# Altium schematic symbol library WH-LTE-7S4.SchLib: 1 symbol
Pins are listed as number, name and electrical type; pins without a type are passive.

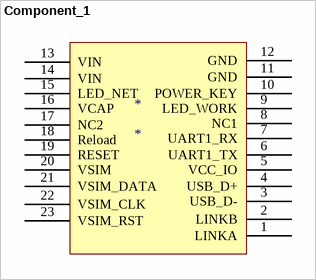
[diagram p0: symbol Component_1]

## Component_1
designator *
pins: 1 LINKA, 2 LINKB, 3 USB_D-, 4 USB_D+, 5 VCC_IO, 6 UART1_TX, 7 UART1_RX, 8 NC1, 9 LED_WORK, 10 POWER_KEY, 11 GND, 12 GND, 13 VIN, 14 VIN, 15 LED_NET, 16 VCAP, 17 NC2, 18 Reload, 19 RESET, 20 VSIM, 21 VSIM_DATA, 22 VSIM_CLK, 23 VSIM_RST